# Altium footprint library BH-49A-5-T-BK.PcbLib: 3 footprints
Each footprint in its own frame and in the unit in brackets; x right, y up, seen from the top. Pads: shape width x height; smd on the part's side, far side on the other; paste and mask are expansions set on the pad; w line width, h text height; cw(c..) or ccw(c..) is an arc to the next point about the centre after c.
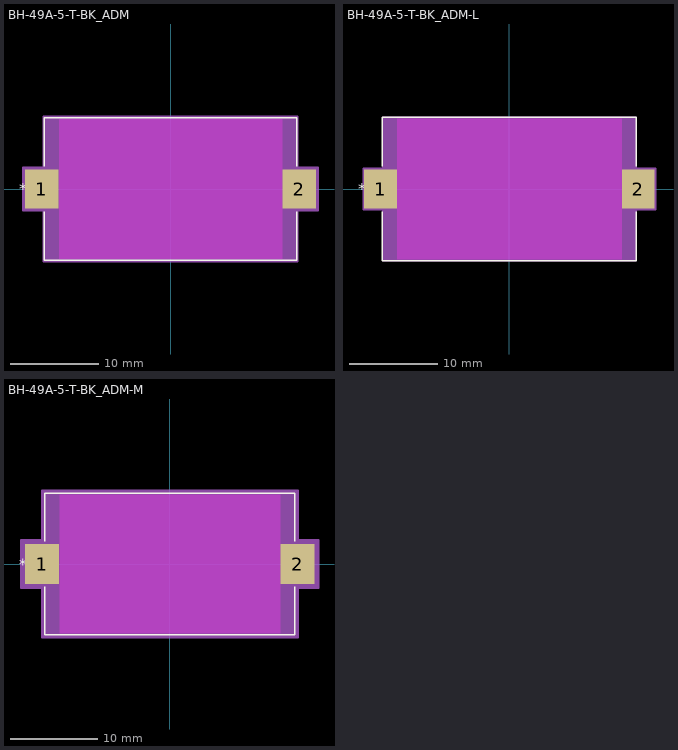
[diagram p0: the footprints below, top view; thin cyan lines are the x and y axes]

## BH-49A-5-T-BK_ADM [mil]
pads (2):
  rect 150x177 smd paste+0 mask+0: 1(-576.7,0) 2(576.7,0)
Top Layer keep-out:
  region: -499.7,-313 -499.7,313 499.7,313 499.7,-313
Top Overlay:
  lines w6: -566,-101.6 -566,-320 566,-320 566,-101.6 ; -566,101.6 -566,320 566,320 566,101.6
  text "*" at -679.2,-25 h50
Keep-Out Layer:
  region: -499.7,-313 -499.7,313 499.7,313 499.7,-313
Mechanical 13:
  lines w1: -561,-157.5 -403.5,-315 ; -561,157.5 -403.5,315 ; -643.7,-88.5 -643.7,88.5 -561,88.5 -561,-88.5 -643.7,-88.5 ; -561,-315 561,-315 561,315 -561,315 -561,-315 ; 561,-88.5 561,88.5 643.7,88.5 643.7,-88.5 561,-88.5
  text "*" at -563.5,-25 h50
Mechanical 15:
  region: -571,-98.5 -661.7,-98.5 -661.7,98.5 -571,98.5 -571,325 571,325 571,98.5 661.7,98.5 661.7,-98.5 571,-98.5 571,-325 -571,-325
  lines w6: -661.7,-98.5 -661.7,98.5 -571,98.5 -571,325 571,325 571,98.5 661.7,98.5 661.7,-98.5 571,-98.5 571,-325 -571,-325 -571,-98.5 -661.7,-98.5
3D body "BH-49A-5-T-BK_ADM.step": height 217.24, standoff 0, extent -643.7,-315 643.7,315

## BH-49A-5-T-BK_ADM-L [mil]
pads (2):
  rect 146x175 smd paste+0 mask+0: 1(-574.7,0) 2(574.7,0)
Top Layer keep-out:
  region: -499.7,-313 -499.7,313 499.7,313 499.7,-313
Top Overlay:
  lines w6: -566,-100.6 -566,-320 566,-320 566,-100.6 ; -566,100.6 -566,320 566,320 566,100.6
  text "*" at -675.2,-25 h50
Keep-Out Layer:
  region: -499.7,-313 -499.7,313 499.7,313 499.7,-313
Mechanical 13:
  lines w1: -561,-157.5 -403.5,-315 ; -561,157.5 -403.5,315 ; -643.7,-88.5 -643.7,88.5 -561,88.5 -561,-88.5 -643.7,-88.5 ; -561,-315 561,-315 561,315 -561,315 -561,-315 ; 561,-88.5 561,88.5 643.7,88.5 643.7,-88.5 561,-88.5
  text "*" at -563.5,-25 h50
Mechanical 15:
  region: -565,-91.5 -651.7,-91.5 -651.7,91.5 -565,91.5 -565,319 565,319 565,91.5 651.7,91.5 651.7,-91.5 565,-91.5 565,-319 -565,-319
  lines w6: -651.7,-91.5 -651.7,91.5 -565,91.5 -565,319 565,319 565,91.5 651.7,91.5 651.7,-91.5 565,-91.5 565,-319 -565,-319 -565,-91.5 -651.7,-91.5
3D body "BH-49A-5-T-BK_ADM.step": height 217.24, standoff 0, extent -643.7,-315 643.7,315

## BH-49A-5-T-BK_ADM-M [mil]
pads (2):
  rect 154x179 smd paste+0 mask+0: 1(-578.7,0) 2(578.7,0)
Top Layer keep-out:
  region: -499.7,-313 -499.7,313 499.7,313 499.7,-313
Top Overlay:
  lines w6: -566,-102.6 -566,-320 566,-320 566,-102.6 ; -566,102.6 -566,320 566,320 566,102.6
  text "*" at -683.2,-25 h50
Keep-Out Layer:
  region: -499.7,-313 -499.7,313 499.7,313 499.7,-313
Mechanical 13:
  lines w1: -561,-157.5 -403.5,-315 ; -561,157.5 -403.5,315 ; -643.7,-88.5 -643.7,88.5 -561,88.5 -561,-88.5 -643.7,-88.5 ; -561,-315 561,-315 561,315 -561,315 -561,-315 ; 561,-88.5 561,88.5 643.7,88.5 643.7,-88.5 561,-88.5
  text "*" at -563.5,-25 h50
Mechanical 15:
  region: -581,-109.5 -675.7,-109.5 -675.7,109.5 -581,109.5 -581,335 581,335 581,109.5 675.7,109.5 675.7,-109.5 581,-109.5 581,-335 -581,-335
  lines w6: -675.7,-109.5 -675.7,109.5 -581,109.5 -581,335 581,335 581,109.5 675.7,109.5 675.7,-109.5 581,-109.5 581,-335 -581,-335 -581,-109.5 -675.7,-109.5
3D body "BH-49A-5-T-BK_ADM.step": height 217.24, standoff 0, extent -643.7,-315 643.7,315